# Altium schematic symbol library SCH - RF - CONNECTOR - COAXIAL JACK.SCHLIB: 1 symbol
Pins are listed as number, name and electrical type; pins without a type are passive.

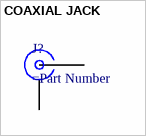
[diagram p0: symbol COAXIAL JACK]

## COAXIAL JACK
designator J?
pins: G GND, S SIGNAL